# Altium schematic symbol library CRCW120610K0JNEAC.SchLib: 1 symbol
Pins are listed as number, name and electrical type; pins without a type are passive.

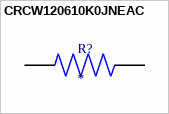
[diagram p0: symbol CRCW120610K0JNEAC]

## CRCW120610K0JNEAC
designator R?
10 kOhms Â±5% 0.25W, 1/4W Chip Resistor 1206 (3216 Metric) - Thick Film; MF: Vishay Dale; MP: CRCW120610K0JNEAC; SnapEDA_Link: https://www.snapeda.com/parts/CRCW120610K0JNEAC/Vishay+Dale/view-part/?ref=snap; Package: 3015 Vishay; Value: *; Check_prices: https://www.snapeda.com/parts/CRCW120610K0JNEAC/Vishay+Dale/view-part/?ref=eda
footprint RESC3015X65N
pins: 1, 2